# EAGLE library part EGH (library egh)
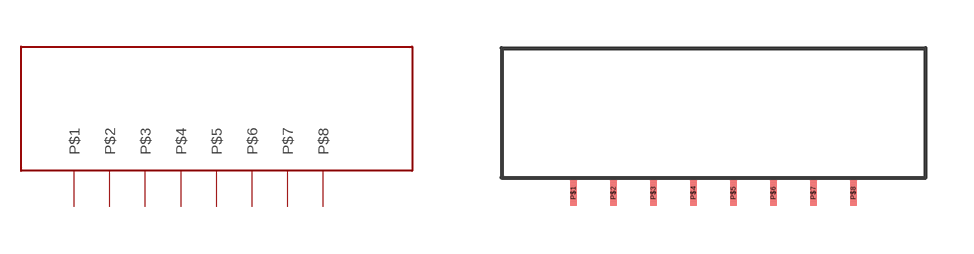
[diagram p0: symbol with the pads of EGH; footprint EGH]

Designator prefix -

## EGH  [EGH]
P$1  P$1
P$2  P$2
P$3  P$3
P$4  P$4
P$5  P$5
P$6  P$6
P$7  P$7
P$8  P$8

## Footprint EGH (pad centres in mm)
smd 0.2 x 0.8: P$1 -4.375,-2.5; P$2 -3.125,-2.5; P$3 -1.875,-2.5; P$4 -0.625,-2.5; P$5 0.625,-2.5; P$6 1.875,-2.5; P$7 3.125,-2.5; P$8 4.375,-2.5